# EAGLE library part CH330N (library Cing Library)
IC OSC SINGLE TIMER 8-SOP Manufacturer's datasheet <https://www.onsemi.com/pub/Collateral/LM555-D.pdf>
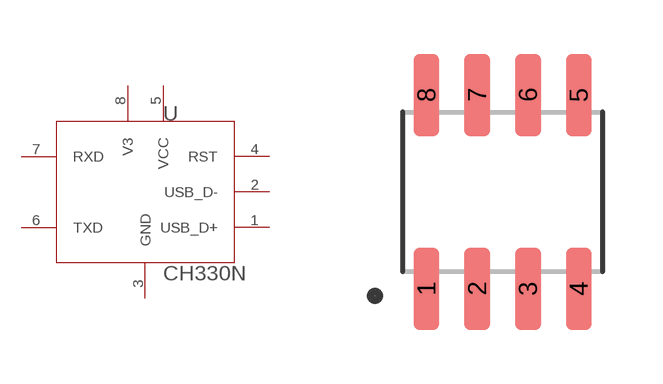
[diagram p15: symbol with the pads of SOIC-8N; footprint SOIC-8N]

Designator prefix U

## CH330N (CREATED_BY: PCBLayout.com; DIGI-KEY_PART: LM555CMFS-ND; MANUFACTURER: ON Semiconductor; MPN: LM555CM; PACKAGE: SOIC-8)  [SOIC-8N]
1  USB_D+
2  USB_D-  in
3  GND  pwr
4  RST  out
5  VCC  pwr
6  TXD  out
7  RXD  in
8  V3  in

## Footprint SOIC-8N (pad centres in mm)
Small Outline IC (SOIC), 1.27 mm pitch; 8 pin, 4.90 mm L X 3.90 mm W X 1.75 mm H body PCB Libraries Packages
smd 0.65 x 2.07: 1 -1.905,-2.425; 2 -0.635,-2.425; 3 0.635,-2.425; 4 1.905,-2.425; 5 1.905,2.425; 6 0.635,2.425; 7 -0.635,2.425; 8 -1.905,2.425